# EAGLE library part PINHD-1X12 (library pinhead)
PIN HEADER
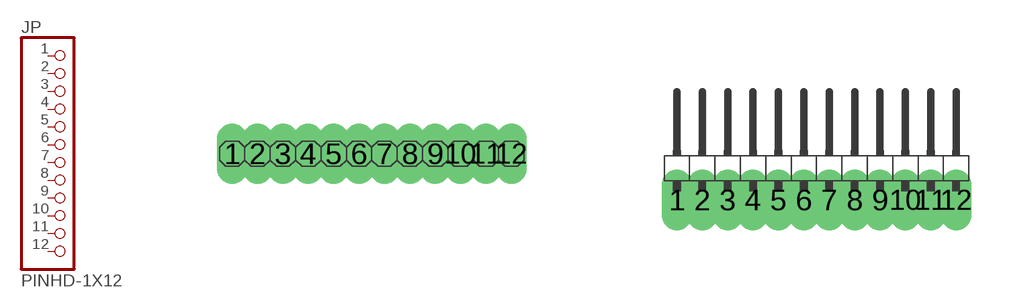
[diagram p6: symbol with the pads of 1X12; footprints 1X12, 1X12/90]

Designator prefix JP

## PINHD-1X12  [1X12]
1  1  pas
2  2  pas
3  3  pas
4  4  pas
5  5  pas
6  6  pas
7  7  pas
8  8  pas
9  9  pas
10  10  pas
11  11  pas
12  12  pas

## PINHD-1X12/90  [1X12/90]
Pads as for 1X12

## Footprint 1X12 (pad centres in mm)
PIN HEADER
drill 0.254 long: 1 -3.493,0; 2 -2.857,0; 3 -2.223,0; 4 -1.587,0; 5 -0.953,0; 6 -0.318,0; 7 0.318,0; 8 0.953,0; 9 1.587,0; 10 2.223,0; 11 2.857,0; 12 3.493,0

## Footprint 1X12/90 (pad centres in mm)
PIN HEADER
drill 0.254 long: 1 -3.493,-0.953; 2 -2.857,-0.953; 3 -2.223,-0.953; 4 -1.587,-0.953; 5 -0.953,-0.953; 6 -0.318,-0.953; 7 0.318,-0.953; 8 0.953,-0.953; 9 1.587,-0.953; 10 2.223,-0.953; 11 2.857,-0.953; 12 3.493,-0.953